# Altium footprint library TO-92.PcbLib: 1 footprints
Each footprint in its own frame and in the unit in brackets; x right, y up, seen from the top. Pads: shape width x height; smd on the part's side, far side on the other; paste and mask are expansions set on the pad; w line width, h text height; cw(c..) or ccw(c..) is an arc to the next point about the centre after c.
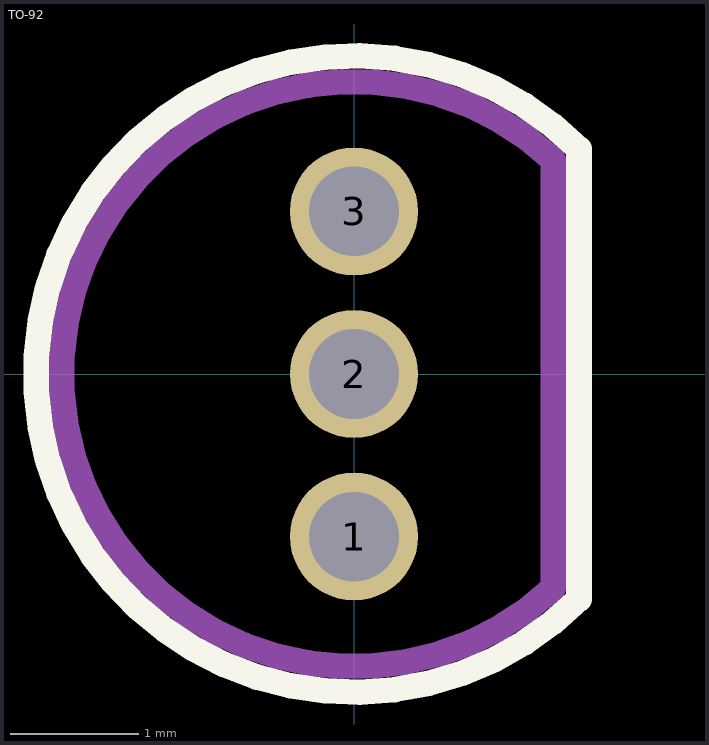
[diagram p0: the footprint, top view; thin cyan lines are the x and y axes]

## TO-92 [mm]
height 5.33
pads (3):
  round 1 hole 0.7: 1(0,-1.27) 2(0,0) 3(0,1.27)
Top Overlay:
  lines w0.2: 1.758,-1.761 1.758,1.756 ; 1.758,-1.758 cw(c0,0) 1.758,1.758
Mechanical 7:
  lines w0.2: 1.558,-1.673 cw(c0,0) 1.558,1.673 1.558,-1.673
3D body "TO-92_line_pin.stp": height 8.2, standoff -3, extent -2.512,-2.511 1.85,2.512